# Altium schematic symbol library Diode_On_Semiconductor_MBR0520LT1G_eec.SchLib: 1 symbol
Pins are listed as number, name and electrical type; pins without a type are passive.

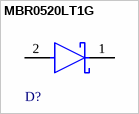
[diagram p0: symbol MBR0520LT1G]

## MBR0520LT1G
designator D?  (value not drawn)
footprint Sod123
pins: 1 C, 2 A